# EAGLE library part MOTOR (library micromouse)
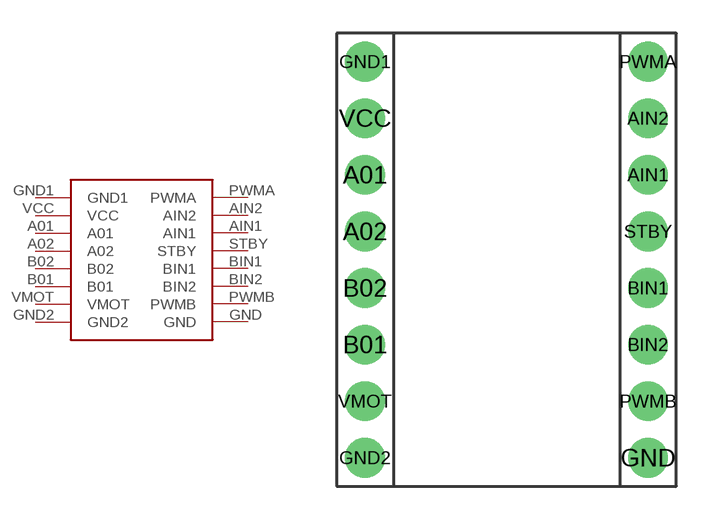
[diagram p2: symbol with the pads of MOTOR; footprint MOTOR]

Designator prefix MOTOR

## MOTOR  [MOTOR]
A01  A01
A02  A02
AIN1  AIN1
AIN2  AIN2
B01  B01
B02  B02
BIN1  BIN1
BIN2  BIN2
GND  GND
GND1  GND1
GND2  GND2
PWMA  PWMA
PWMB  PWMB
STBY  STBY
VCC  VCC
VMOT  VMOT

## Footprint MOTOR (pad centres in mm)
drill 1.016 pad 1.778: A01 1.27,13.97; A02 1.27,11.43; AIN1 13.97,13.97; AIN2 13.97,16.51; B01 1.27,6.35; B02 1.27,8.89; BIN1 13.97,8.89; BIN2 13.97,6.35; GND 13.97,1.27; GND1 1.27,19.05; GND2 1.27,1.27; PWMA 13.97,19.05; PWMB 13.97,3.81; STBY 13.97,11.43; VCC 1.27,16.51; VMOT 1.27,3.81